# Altium footprint library 5sc70.PcbLib: 1 footprints
Each footprint in its own frame and in the unit in brackets; x right, y up, seen from the top. Pads: shape width x height; smd on the part's side, far side on the other; paste and mask are expansions set on the pad; w line width, h text height; cw(c..) or ccw(c..) is an arc to the next point about the centre after c.
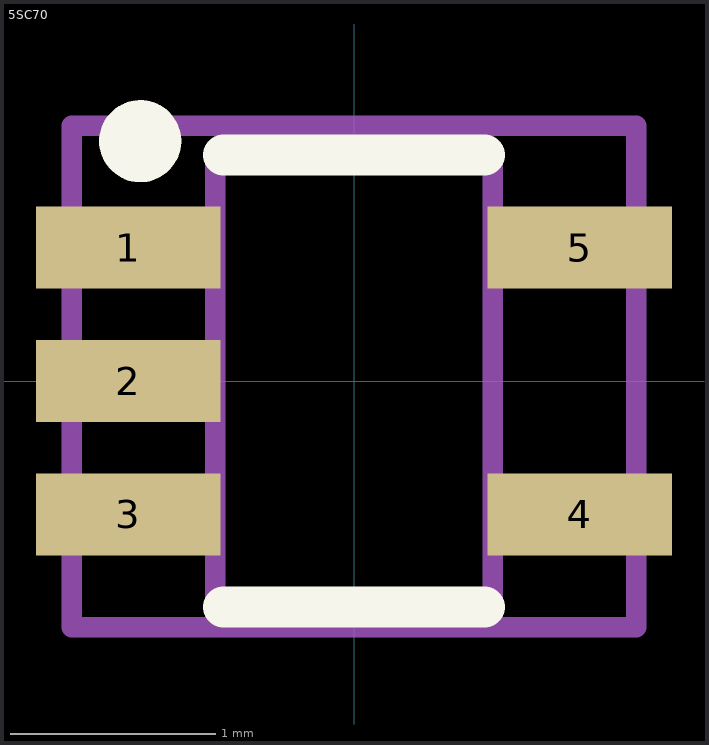
[diagram p0: the footprint, top view; thin cyan lines are the x and y axes]

## 5SC70 [mm] "5SC70/SOT353-1/MO-203/SC-88A, 5-Leads, Body 2.2x2.4mm (max), Pitch 0.65mm, IPC High Density"
height 1.1
pads (5):
  rect 0.9x0.4 smd: 1(-1.1,0.65) 2(-1.1,0) 3(-1.1,-0.65) 4(1.1,-0.65) 5(1.1,0.65)
Top Overlay:
  circle w0.2: c-1.041,1.168 r0.1
  lines w0.2: -0.635,-1.1 0.635,-1.1 ; -0.635,1.1 0.635,1.1
Top 3D Body:
  lines w0.1: -0.675,-1.1 0.675,-1.1 0.675,1.1 -0.675,1.1 -0.675,-1.1
Top Courtyard:
  lines w0.1: -1.375,-1.2 1.375,-1.2 1.375,1.245 -1.375,1.245 -1.375,-1.2
Top Designator (Mech17):
  text ".Designator" at -0.175,0.9 h1.02
3D body "User Library-SC70-5-1.step": height 0.95, standoff 0, extent -1.05,-1 1.05,1